# Altium footprint library PcbLib1.PcbLib: 7 footprints
Each footprint in its own frame and in the unit in brackets; x right, y up, seen from the top. Pads: shape width x height; smd on the part's side, far side on the other; paste and mask are expansions set on the pad; w line width, h text height; cw(c..) or ccw(c..) is an arc to the next point about the centre after c.
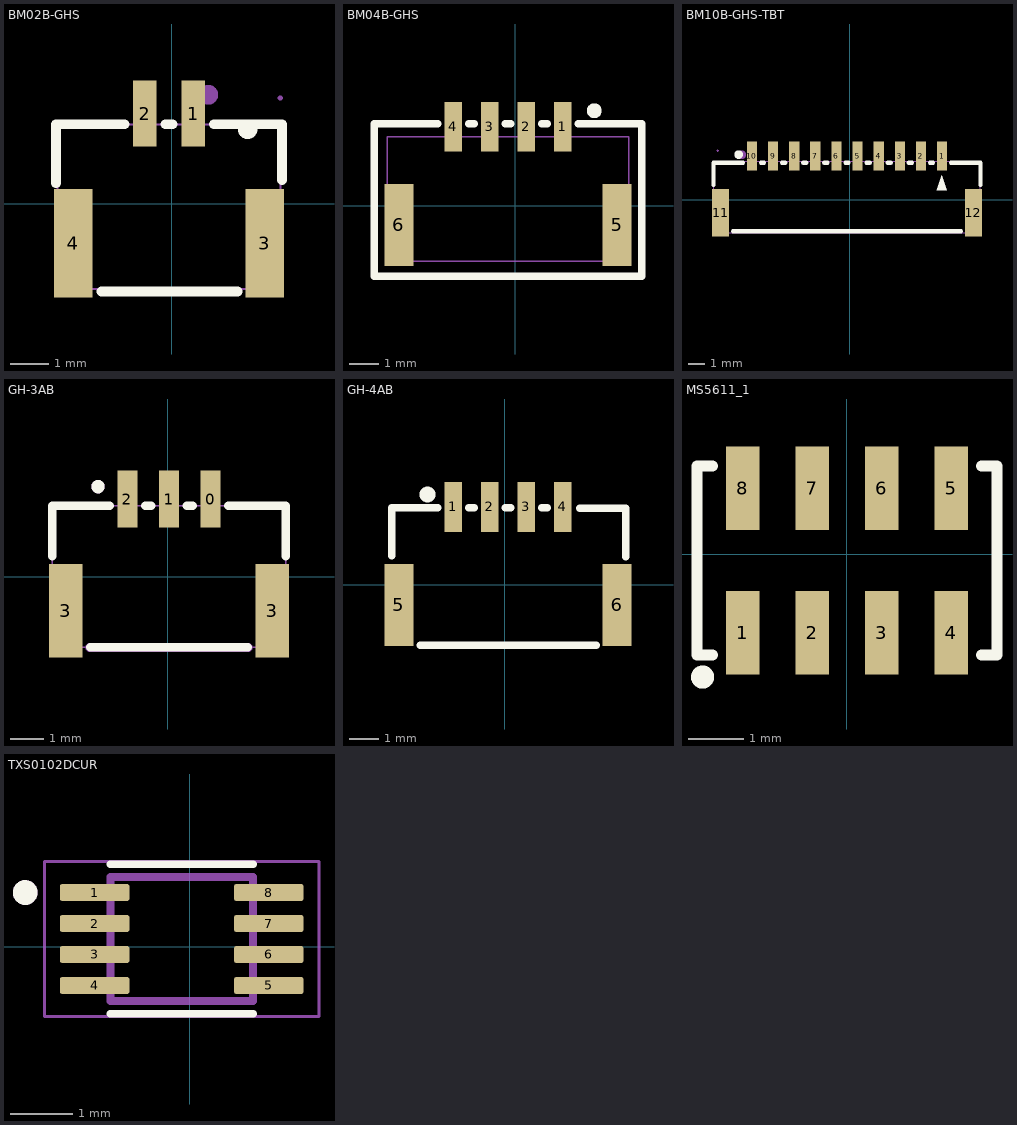
[diagram p0: the footprints below, top view; thin cyan lines are the x and y axes]

## BM02B-GHS [mm]
pads (4):
  rect 0.6x1.7 smd: 1(0.552,2.337) 2(-0.698,2.337)
  rect 1x2.8 smd: 3(2.402,-1.013) 4(-2.548,-1.013)
Top Overlay:
  circle w0.254: c1.959,1.932 r0.127
  lines w0.254: -2.994,0.535 -2.994,2.059 -1.216,2.059 ; -1.817,-2.259 1.705,-2.259 ; -0.167,2.059 0.021,2.059 ; 1.083,2.059 2.848,2.059 2.848,0.618
Mechanical 6:
  circle w0.254: c0.943,2.821 r0.127
Mechanical 15:
  region: 2.577,-2.198 2.227,-2.198 2.227,-0.198 2.577,-0.198
  region: -2.723,-0.198 -2.373,-0.198 -2.373,-2.198 -2.723,-2.198
  region: 0.452,2.737 0.652,2.737 0.652,1.937 0.452,1.937
  region: -0.798,2.737 -0.598,2.737 -0.598,1.937 -0.798,1.937
  region: 2.862,2.737 2.862,2.712 2.827,2.677 2.777,2.677 2.742,2.712 2.742,2.737 2.742,2.762 2.777,2.797 2.827,2.797 2.862,2.762
  lines w0.051: -2.948,-2.198 -2.948,2.052 2.802,2.052 2.802,-2.198 -2.948,-2.198

## BM04B-GHS [mm]
pads (6):
  rect 0.6x1.7 smd: 1(1.621,2.691) 2(0.371,2.691) 3(-0.879,2.691) 4(-2.129,2.691)
  rect 1x2.8 smd: 5(3.471,-0.659) 6(-3.979,-0.659)
Top Overlay:
  circle w0.254: c2.692,3.238 r0.127
  lines w0.254: -2.659,2.794 -4.826,2.794 -4.826,-2.413 4.318,-2.413 4.318,2.794 2.151,2.794 ; -1.598,2.794 -1.41,2.794 ; -0.348,2.794 -0.16,2.794 ; 0.902,2.794 1.09,2.794
Mechanical 15:
  region: -2.229,2.991 -2.029,2.991 -2.029,2.191 -2.229,2.191
  region: -0.979,2.991 -0.779,2.991 -0.779,2.191 -0.979,2.191
  region: 0.271,2.991 0.471,2.991 0.471,2.191 0.271,2.191
  region: 1.521,2.991 1.721,2.991 1.721,2.191 1.521,2.191
  region: 3.071,0.441 3.871,0.441 3.871,-1.759 3.071,-1.759
  region: -4.379,0.441 -3.579,0.441 -3.579,-1.759 -4.379,-1.759
  region: -4.258,-1.905 -4.258,-1.93 -4.293,-1.965 -4.343,-1.965 -4.378,-1.93 -4.378,-1.905 -4.378,-1.88 -4.343,-1.845 -4.293,-1.845 -4.258,-1.88
  lines w0.051: -4.379,-1.905 3.871,-1.905 3.871,2.345 -4.379,2.345 -4.379,-1.905

## BM10B-GHS-TBT [mm]
pads (12):
  rect 0.6x1.7 smd: 1(5.472,2.591) 2(4.222,2.591) 3(2.972,2.591) 4(1.722,2.591) 5(0.472,2.591) 6(-0.778,2.591) 7(-2.028,2.591) 8(-3.278,2.591) 9(-4.528,2.591) 10(-5.778,2.591)
  rect 1x2.8 smd: 11(-7.628,-0.759) 12(7.322,-0.759)
Top Overlay:
  circle w0.254: c-6.563,2.676 r0.127
  region: 5.147,0.566 5.747,0.566 5.447,1.466
  lines w0.254: -8.053,0.872 -8.053,2.196 -6.309,2.196 ; -6.897,-1.854 6.591,-1.854 ; -5.247,2.196 -5.059,2.196 ; -3.997,2.196 -3.809,2.196 ; -2.747,2.196 -2.559,2.196 ; -1.497,2.196 -1.309,2.196 ; -0.247,2.196 -0.059,2.196 ; 1.003,2.196 1.191,2.196 ; 2.253,2.196 2.441,2.196 ; 3.503,2.196 3.691,2.196 ; 4.753,2.196 4.941,2.196 ; 6.003,2.196 7.747,2.196 7.747,0.872
Mechanical 6:
  circle w0.254: c-6.373,2.666 r0.127
Mechanical 15:
  region: 7.222,0.041 7.422,0.041 7.422,-1.959 7.222,-1.959
  region: -7.728,0.041 -7.528,0.041 -7.528,-1.959 -7.728,-1.959
  region: -5.878,2.996 -5.678,2.996 -5.678,1.796 -5.878,1.796
  region: -4.628,2.996 -4.428,2.996 -4.428,1.796 -4.628,1.796
  region: -3.378,2.996 -3.178,2.996 -3.178,1.796 -3.378,1.796
  region: -2.128,2.996 -1.928,2.996 -1.928,1.796 -2.128,1.796
  region: -0.878,2.996 -0.678,2.996 -0.678,1.796 -0.878,1.796
  region: 0.372,2.996 0.572,2.996 0.572,1.796 0.372,1.796
  region: 1.622,2.996 1.822,2.996 1.822,1.796 1.622,1.796
  region: 2.872,2.996 3.072,2.996 3.072,1.796 2.872,1.796
  region: 4.122,2.996 4.322,2.996 4.322,1.796 4.122,1.796
  region: 5.372,2.996 5.572,2.996 5.572,1.796 5.372,1.796
  region: -7.753,2.916 -7.753,2.891 -7.788,2.856 -7.838,2.856 -7.873,2.891 -7.873,2.916 -7.873,2.941 -7.838,2.976 -7.788,2.976 -7.753,2.941
  lines w0.051: -8.033,-1.959 -8.033,2.291 7.717,2.291 7.717,-1.959 -8.033,-1.959

## GH-3AB [mm]
pads (5):
  rect 0.6x1.7 smd: 0(1.294,2.337) 1(0.044,2.337) 2(-1.206,2.337)
  rect 1x2.8 smd: 3(-3.056,-1.013) 3(3.144,-1.013)
Top Overlay:
  circle w0.2: c-2.086,2.707 r0.1
  lines w0.254: -3.456,0.618 -3.456,2.137 -1.737,2.137 ; -2.325,-2.113 2.413,-2.113 ; -0.675,2.137 -0.487,2.137 ; 0.575,2.137 0.763,2.137 ; 1.825,2.137 3.544,2.137 3.544,0.618
Mechanical 6:
  circle w0.2: c-2.086,2.707 r0.1
  region: -2.325,-1.986 2.413,-1.986 2.466,-1.986 2.54,-2.06 2.54,-2.166 2.466,-2.24 2.413,-2.24 -2.325,-2.24 -2.377,-2.24 -2.452,-2.166 -2.452,-2.06 -2.377,-1.986 -2.325,-1.986
Mechanical 15:
  region: -3.206,-0.013 -2.906,-0.013 -2.906,-2.013 -3.206,-2.013
  region: 2.994,-0.013 3.294,-0.013 3.294,-2.013 2.994,-2.013
  region: 1.194,2.837 1.394,2.837 1.394,1.837 1.194,1.837
  region: -0.056,2.837 0.144,2.837 0.144,1.837 -0.056,1.837
  region: -1.306,2.837 -1.106,2.837 -1.106,1.837 -1.306,1.837
  lines w0.051: -3.456,-2.113 3.544,-2.113 3.544,2.137 -3.456,2.137 -3.456,-2.113

## GH-4AB [mm]
pads (6):
  rect 0.6x1.7 smd paste+0 mask+0.05: 1(-1.758,2.667) 2(-0.508,2.667) 3(0.742,2.667) 4(1.992,2.667)
  rect 1x2.8 smd paste+0 mask+0.05: 5(-3.608,-0.683) 6(3.842,-0.683)
Top Overlay:
  region: -2.901,3.092 -2.901,3.145 -2.86,3.244 -2.785,3.32 -2.686,3.36 -2.579,3.36 -2.481,3.32 -2.405,3.244 -2.364,3.145 -2.364,3.092 -2.364,3.039 -2.405,2.94 -2.481,2.864 -2.579,2.824 -2.686,2.824 -2.785,2.864 -2.86,2.94 -2.901,3.039 -2.901,3.092
  lines w0.254: -3.862,0.992 -3.862,2.643 -2.289,2.643 ; -2.877,-2.056 3.125,-2.056 ; -1.227,2.643 -1.039,2.643 ; 0.023,2.643 0.211,2.643 ; 1.273,2.643 1.461,2.643 ; 2.572,2.619 4.141,2.619 4.141,0.968

## MS5611_1 [mm]
pads (8):
  rect 0.6x1.5 smd paste+0 mask+0.051: 1(-1.869,-1.407) 2(-0.619,-1.407) 3(0.631,-1.407) 4(1.881,-1.407) 5(1.881,1.193) 6(0.631,1.193) 7(-0.619,1.193) 8(-1.869,1.193)
Top Overlay:
  lines w0.2: -2.419,-1.807 -2.694,-1.807 -2.694,1.593 -2.419,1.593 ; 2.431,-1.807 2.706,-1.807 2.706,1.593 2.431,1.593
  lines w0.254: -2.595,-2.126 ccw(c-2.594,-2.206) -2.592,-2.126

## TXS0102DCUR [mm]
pads (8):
  rrect25% 1.12x0.27 smd: 1(-1.532,0.877) 2(-1.532,0.377) 3(-1.532,-0.123) 4(-1.532,-0.623) 5(1.278,-0.623) 6(1.278,-0.123) 7(1.278,0.377) 8(1.278,0.877)
Top Overlay:
  circle w0.2: c-2.652,0.877 r0.1
  lines w0.127: -1.277,-1.078 1.023,-1.078 ; -1.277,1.332 1.023,1.332
Mechanical 13:
  circle w0.2: c-2.652,0.877 r0.1
  lines w0.127: -1.277,-0.873 1.023,-0.873 1.023,1.127 -1.277,1.127 -1.277,-0.873
Mechanical 15:
  lines w0.05: -2.342,-1.123 2.088,-1.123 2.088,1.377 -2.342,1.377 -2.342,-1.123
3D body "step_temp.STEP": height 0.9, standoff 0, extent -1.677,-0.873 1.423,1.127